# EAGLE library part CONNECTOR-RELAY-SOLENOIDS (library RelayBoard)
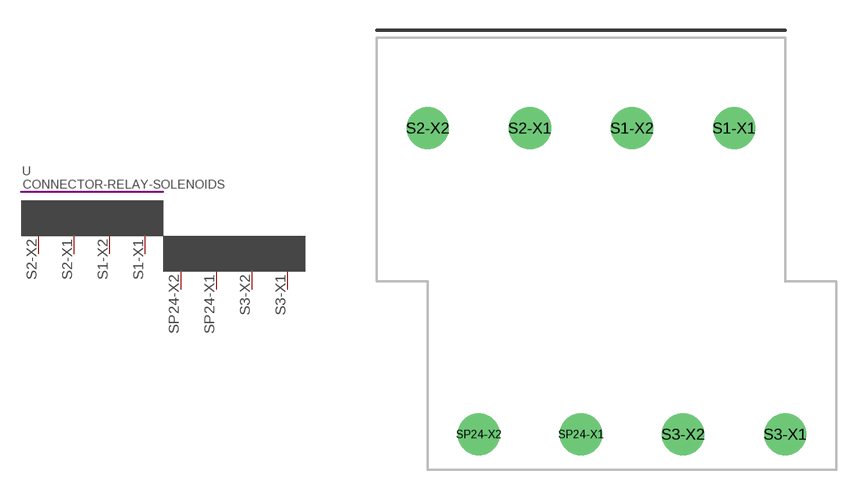
[diagram p1: symbol with the pads of CON-SCREW-2LVL-4POS-TE-CUSTOM-24SOL; footprint CON-SCREW-2LVL-4POS-TE-CUSTOM-24SOL]

Designator prefix -

## CONNECTOR-RELAY-SOLENOIDS  [CON-SCREW-2LVL-4POS-TE-CUSTOM-24SOL]
S1-X1  S1-X1  pwr
S1-X2  S1-X2  pwr
S2-X1  S2-X1  pwr
S2-X2  S2-X2  pwr
S3-X1  S3-X1  pwr
S3-X2  S3-X2  pwr
SP24-X1  SP-X1  pwr
SP24-X2  SP-X2  pwr

## Footprint CON-SCREW-2LVL-4POS-TE-CUSTOM-24SOL (pad centres in mm)
http://www.te.com/commerce/DocumentDelivery/DDEController?Action=srchrtrv&DocNm=796692&DocType=Customer+Drawing&DocLang=English
drill 1.4: S1-X1 15.24,7.62; S1-X2 10.16,7.62; S2-X1 5.08,7.62; S2-X2 0,7.62; S3-X1 17.78,-7.62; S3-X2 12.7,-7.62; SP24-X1 7.62,-7.62; SP24-X2 2.54,-7.62